# Altium footprint library dl001.PcbLib: 18 footprints (part 2 of 2)
Each footprint in its own frame and in the unit in brackets; x right, y up, seen from the top. Pads: shape width x height; smd on the part's side, far side on the other; paste and mask are expansions set on the pad; w line width, h text height; cw(c..) or ccw(c..) is an arc to the next point about the centre after c.
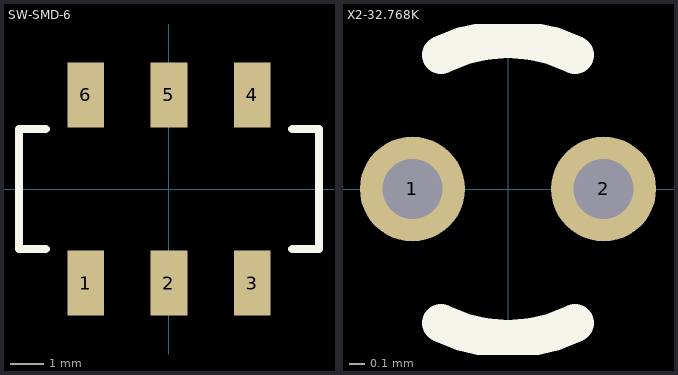
[diagram p1: the footprints below, top view; thin cyan lines are the x and y axes]

## SW-SMD-6 [mm]
height 5
pads (6):
  rect 1.1x1.95 smd: 1(-2.5,-2.825) 2(0,-2.825) 3(2.5,-2.825) 4(2.5,2.825) 5(0,2.825) 6(-2.5,2.825)
Top Overlay:
  lines w0.254: -3.7,-1.8 -4.5,-1.8 -4.5,1.8 -3.7,1.8 ; 3.7,-1.8 4.5,-1.8 4.5,1.8 3.7,1.8

## X2-32.768K [mm]
height 5.06
pads (2):
  round 0.7 hole 0.4: 1(-0.638,0) 2(0.638,0)
Top Overlay:
  lines w0.254: -0.447,-0.894 ccw(c0,0) 0.447,-0.894 ; -0.447,0.894 cw(c0,0) 0.447,0.894